# Altium schematic symbol library IC_ASSR-1611.SchLib: 1 symbol
Pins are listed as number, name and electrical type; pins without a type are passive.

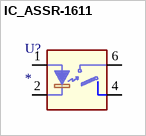
[diagram p0: symbol IC_ASSR-1611]

## IC_ASSR-1611
designator U?
pins: 1, 2, 4, 6